# EAGLE library part CC2530_OLD (library CC2530_PCB_TL)
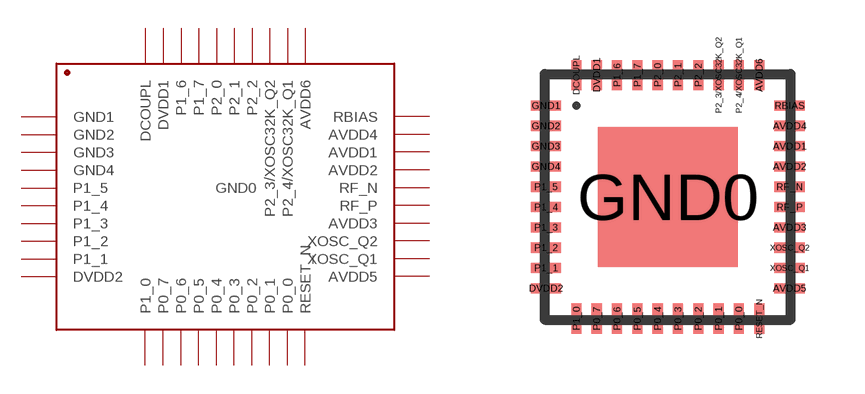
[diagram p16: symbol with the pads of CC2530_OLD; footprint CC2530_OLD]

Designator prefix -

## CC2530_OLD  [CC2530_OLD]
AVDD1  AVDD1  pwr
AVDD2  AVDD2  pwr
AVDD3  AVDD3  pwr
AVDD4  AVDD4  pwr
AVDD5  AVDD5  pwr
AVDD6  AVDD6  pwr
DCOUPL  DCOUPL  pwr
DVDD1  DVDD1  pwr
DVDD2  DVDD2  pwr
GND0  GND0  pwr
GND1  GND1  pwr
GND2  GND2  pwr
GND3  GND3  pwr
GND4  GND4  pwr
P0_0  P0_0
P0_1  P0_1
P0_2  P0_2
P0_3  P0_3
P0_4  P0_4
P0_5  P0_5
P0_6  P0_6
P0_7  P0_7
P1_0  P1_0
P1_1  P1_1
P1_2  P1_2
P1_3  P1_3
P1_4  P1_4
P1_5  P1_5
P1_6  P1_6
P1_7  P1_7
P2_0  P2_0
P2_1  P2_1
P2_2  P2_2
P2_3/XOSC32K_Q2  P2_3/XOSC32K_Q2
P2_4/XOSC32K_Q1  P2_4/XOSC32K_Q1
RBIAS  RBIAS
RESET_N  RESET_N  in
RF_N  RF_N
RF_P  RF_P
XOSC_Q1  XOSC_Q1
XOSC_Q2  XOSC_Q2

## Footprint CC2530_OLD (pad centres in mm)
INCOMPLETE
smd 0.762 x 0.254: AVDD1 3.044,1.271; AVDD2 3.044,0.763; AVDD3 3.044,-0.761; AVDD4 3.044,1.779; AVDD5 3.044,-2.285; DVDD2 -3.052,-2.285; GND1 -3.052,2.287; GND2 -3.052,1.779; GND3 -3.052,1.271; GND4 -3.052,0.763; P1_1 -3.052,-1.777; P1_2 -3.052,-1.269; P1_3 -3.052,-0.761; P1_4 -3.052,-0.253; P1_5 -3.052,0.255; RBIAS 3.044,2.287; RF_N 3.044,0.255; RF_P 3.044,-0.253; XOSC_Q1 3.044,-1.777; XOSC_Q2 3.044,-1.269
smd 0.254 x 0.762: AVDD6 2.282,3.049; DCOUPL -2.29,3.049; DVDD1 -1.782,3.049; P0_0 1.774,-3.047; P0_1 1.266,-3.047; P0_2 0.758,-3.047; P0_3 0.25,-3.047; P0_4 -0.258,-3.047; P0_5 -0.766,-3.047; P0_6 -1.274,-3.047; P0_7 -1.782,-3.047; P1_0 -2.29,-3.047; P1_6 -1.274,3.049; P1_7 -0.766,3.049; P2_0 -0.258,3.049; P2_1 0.25,3.049; P2_2 0.758,3.049; P2_3/XOSC32K_Q2 1.266,3.049; P2_4/XOSC32K_Q1 1.774,3.049; RESET_N 2.282,-3.047
smd 3.5 x 3.5: GND0 0,0